# EAGLE library part OPTICAL-TM2291(SOP16-10X5MM) (library OPL_Sensor-Transducer)
314020020
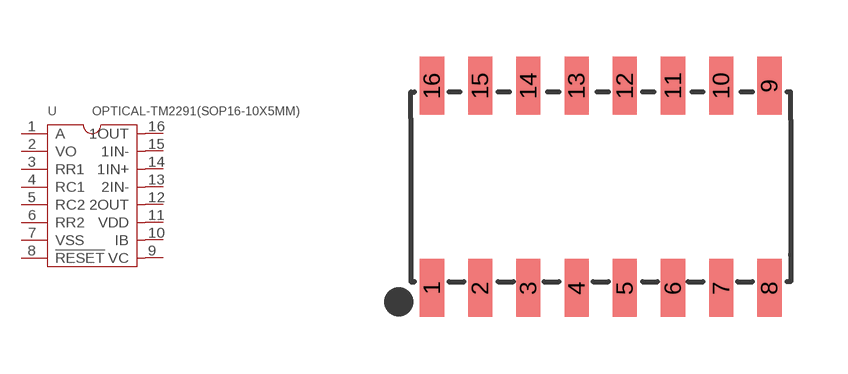
[diagram p1: symbol with the pads of SOP16-1.27-10.0X5.0MM; footprint SOP16-1.27-10.0X5.0MM]

Designator prefix U

## OPTICAL-TM2291(SOP16-10X5MM) (MPN: TM2291; VALUE: TM2291)  [SOP16-1.27-10.0X5.0MM]
1  A
2  VO
3  RR1
4  RC1
5  RC2
6  RR2
7  VSS  sup
8  !RESET  in
9  VC
10  IB
11  VDD  sup
12  2OUT  out
13  2IN-  in
14  1IN+  in
15  1IN-  in
16  1OUT  out

## Footprint SOP16-1.27-10.0X5.0MM (pad centres in mm)
smd 0.635 x 1.524: 1 -4.445,-2.667; 2 -3.175,-2.667; 3 -1.905,-2.667; 4 -0.635,-2.667; 5 0.635,-2.667; 6 1.905,-2.667; 7 3.175,-2.667; 8 4.445,-2.667; 9 4.445,2.667; 10 3.175,2.667; 11 1.905,2.667; 12 0.635,2.667; 13 -0.635,2.667; 14 -1.905,2.667; 15 -3.175,2.667; 16 -4.445,2.667